# Altium footprint library K71.PcbLib: 32 footprints (part 2 of 2)
Each footprint in its own frame and in the unit in brackets; x right, y up, seen from the top. Pads: shape width x height; smd on the part's side, far side on the other; paste and mask are expansions set on the pad; w line width, h text height; cw(c..) or ccw(c..) is an arc to the next point about the centre after c.
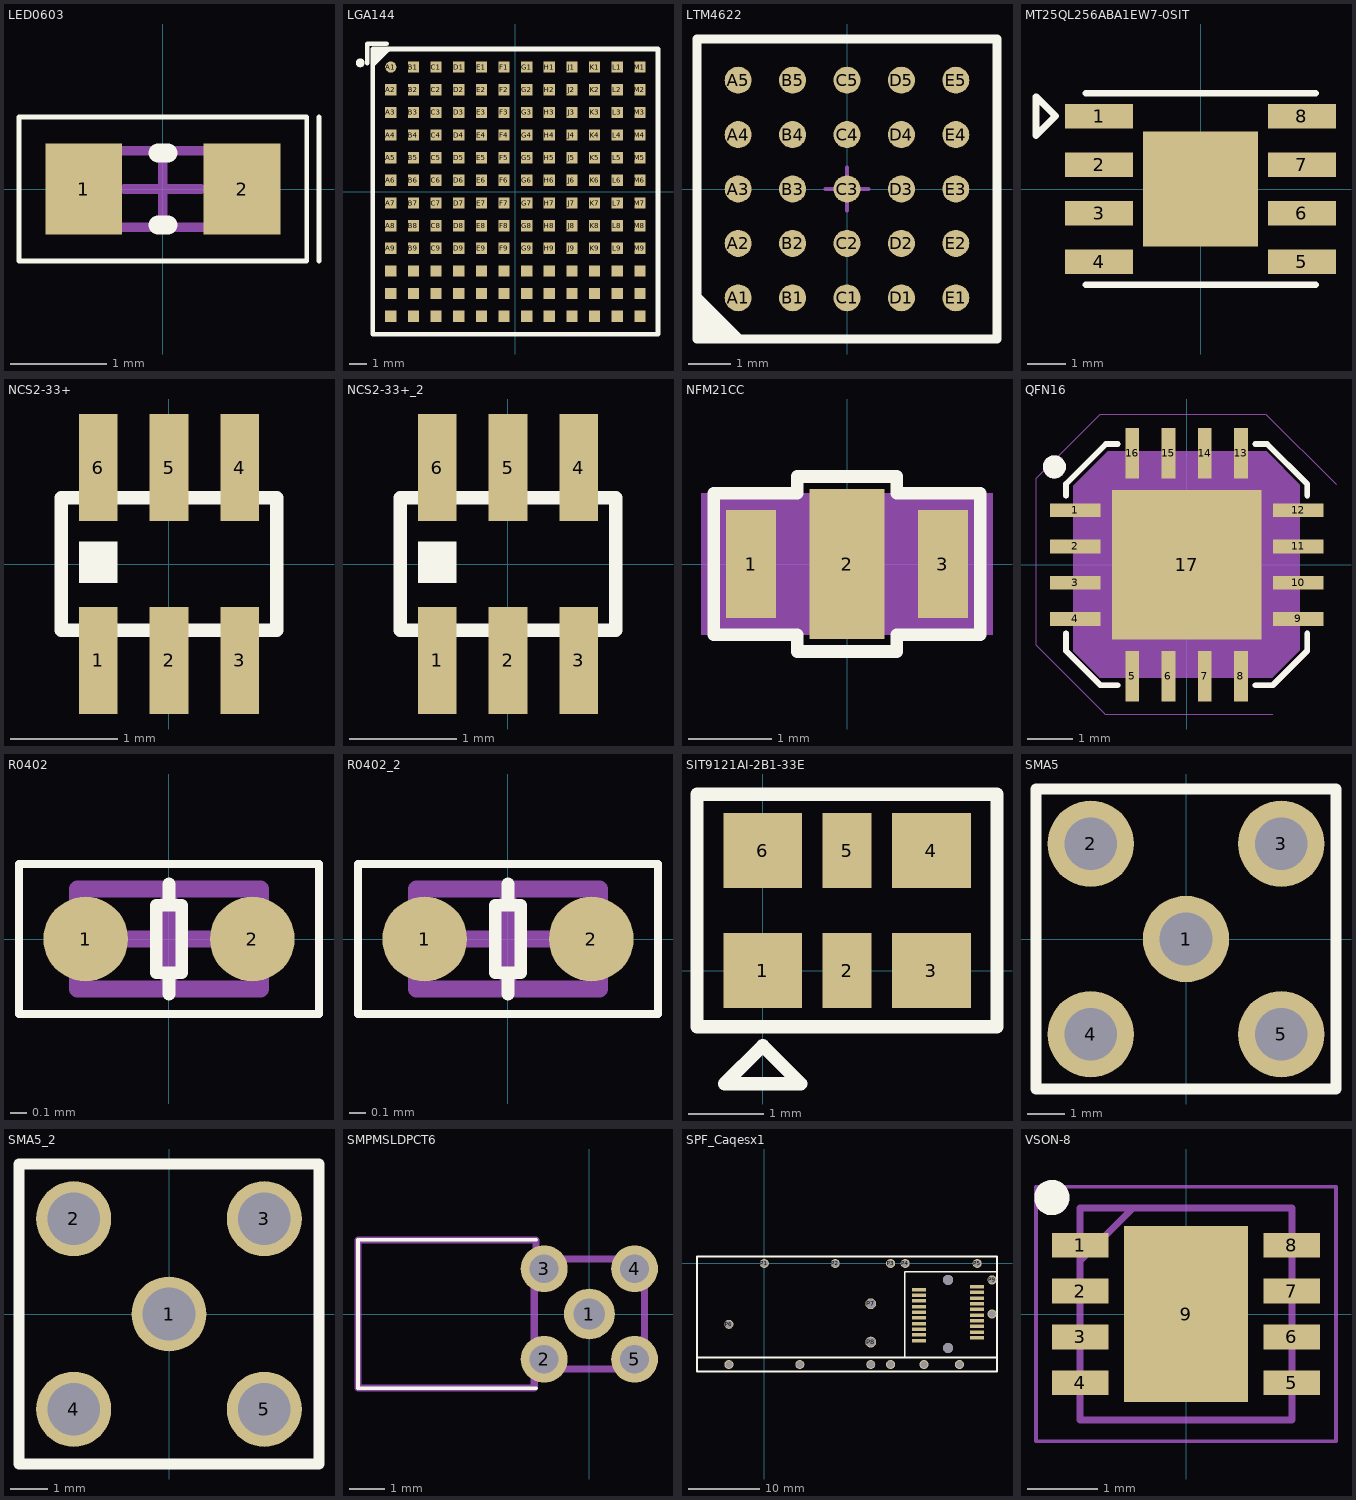
[diagram p1: the footprints below, top view; thin cyan lines are the x and y axes]

## LED0603 [mm]
height 1.2
pads (2):
  rect 0.8x0.95 smd: 1(-0.825,0) 2(0.825,0)
Top Overlay:
  lines w0.05: 1.627,-0.75 1.627,0.75 ; -1.5,-0.75 1.5,-0.75 1.5,0.75 -1.5,0.75 -1.5,-0.75
  lines w0.2: -0.05,-0.375 0.05,-0.375 ; -0.05,0.375 0.05,0.375
Mechanical 13:
  lines w0.1: -0.8,-0.4 0.8,-0.4 0.8,0.4 -0.8,0.4 -0.8,-0.4
Mechanical 15:
  lines w0.1: -0.4,0 0.4,0 ; 0,-0.4 0,0.4
3D body "LED 0603-R.STEP": height 0.47, standoff 0, extent -0.8,-0.401 0.8,0.401

## LGA144 [mm] "LTM4630"
pads (144):
  round 0.63 smd: A1(-6.985,6.985)
  rect 0.63x0.63 smd: A2(-6.985,5.715) A3(-6.985,4.445) A4(-6.985,3.175) A5(-6.985,1.905) A6(-6.985,0.635) A7(-6.985,-0.635) A8(-6.985,-1.905) A9(-6.985,-3.175) A10(-6.985,-4.445) A11(-6.985,-5.715) A12(-6.985,-6.985) B1(-5.715,6.985) B2(-5.715,5.715) B3(-5.715,4.445) B4(-5.715,3.175) B5(-5.715,1.905) B6(-5.715,0.635) B7(-5.715,-0.635) B8(-5.715,-1.905) B9(-5.715,-3.175) B10(-5.715,-4.445) B11(-5.715,-5.715) B12(-5.715,-6.985) C1(-4.445,6.985) C2(-4.445,5.715) C3(-4.445,4.445) C4(-4.445,3.175) C5(-4.445,1.905) C6(-4.445,0.635) C7(-4.445,-0.635) C8(-4.445,-1.905) C9(-4.445,-3.175) C10(-4.445,-4.445) C11(-4.445,-5.715) C12(-4.445,-6.985) D1(-3.175,6.985) D2(-3.175,5.715) D3(-3.175,4.445) D4(-3.175,3.175) D5(-3.175,1.905) D6(-3.175,0.635) D7(-3.175,-0.635) D8(-3.175,-1.905) D9(-3.175,-3.175) D10(-3.175,-4.445) D11(-3.175,-5.715) D12(-3.175,-6.985) E1(-1.905,6.985) E2(-1.905,5.715) E3(-1.905,4.445) E4(-1.905,3.175) E5(-1.905,1.905) E6(-1.905,0.635) E7(-1.905,-0.635) E8(-1.905,-1.905) E9(-1.905,-3.175) E10(-1.905,-4.445) E11(-1.905,-5.715) E12(-1.905,-6.985) F1(-0.635,6.985) F2(-0.635,5.715) F3(-0.635,4.445) F4(-0.635,3.175) F5(-0.635,1.905) F6(-0.635,0.635) F7(-0.635,-0.635) F8(-0.635,-1.905) F9(-0.635,-3.175) F10(-0.635,-4.445) F11(-0.635,-5.715) F12(-0.635,-6.985) G1(0.635,6.985) G2(0.635,5.715) G3(0.635,4.445) G4(0.635,3.175) G5(0.635,1.905) G6(0.635,0.635) G7(0.635,-0.635) G8(0.635,-1.905) G9(0.635,-3.175) G10(0.635,-4.445) G11(0.635,-5.715) G12(0.635,-6.985) H1(1.905,6.985) H2(1.905,5.715) H3(1.905,4.445) H4(1.905,3.175) H5(1.905,1.905) H6(1.905,0.635) H7(1.905,-0.635) H8(1.905,-1.905) H9(1.905,-3.175) H10(1.905,-4.445) H11(1.905,-5.715) H12(1.905,-6.985) J1(3.175,6.985) J2(3.175,5.715) J3(3.175,4.445) J4(3.175,3.175) J5(3.175,1.905) J6(3.175,0.635) J7(3.175,-0.635) J8(3.175,-1.905) J9(3.175,-3.175) J10(3.175,-4.445) J11(3.175,-5.715) J12(3.175,-6.985) K1(4.445,6.985) K2(4.445,5.715) K3(4.445,4.445) K4(4.445,3.175) K5(4.445,1.905) K6(4.445,0.635) K7(4.445,-0.635) K8(4.445,-1.905) K9(4.445,-3.175) K10(4.445,-4.445) K11(4.445,-5.715) K12(4.445,-6.985) L1(5.715,6.985) L2(5.715,5.715) L3(5.715,4.445) L4(5.715,3.175) L5(5.715,1.905) L6(5.715,0.635) L7(5.715,-0.635) L8(5.715,-1.905) L9(5.715,-3.175) L10(5.715,-4.445) L11(5.715,-5.715) L12(5.715,-6.985) M1(6.985,6.985) M2(6.985,5.715) M3(6.985,4.445) M4(6.985,3.175) M5(6.985,1.905) M6(6.985,0.635) M7(6.985,-0.635) M8(6.985,-1.905) M9(6.985,-3.175) M10(6.985,-4.445) M11(6.985,-5.715) M12(6.985,-6.985)
Top Overlay:
  lines w0.249: -8.7,7.1 cw(c-8.699,7.225) -8.697,7.1
  lines w0.254: -8.3,7.2 -8.3,8.3 -7.2,8.3 ; -8,7.1 -7.165,7.935 -7.165,8 ; -8,7.401 -7.401,8 -7.33,8 ; -8,7.6 -7.699,7.901 -7.699,8 ; -8,-8 8,-8 8,8 -8,8 -8,-8

## LTM4622 [mm]
height 1.55
pads (25):
  round 0.63 smd: A1(-2.54,-2.54) A2(-2.54,-1.27) A3(-2.54,0) A4(-2.54,1.27) A5(-2.54,2.54) B1(-1.27,-2.54) B2(-1.27,-1.27) B3(-1.27,0) B4(-1.27,1.27) B5(-1.27,2.54) C1(0,-2.54) C2(0,-1.27) C3(0,0) C4(0,1.27) C5(0,2.54) D1(1.27,-2.54) D2(1.27,-1.27) D3(1.27,0) D4(1.27,1.27) D5(1.27,2.54) E1(2.54,-2.54) E2(2.54,-1.27) E3(2.54,0) E4(2.54,1.27) E5(2.54,2.54)
Top Overlay:
  region: -3.5,-2.5 -2.5,-3.5 -3.5,-3.5
  lines w0.2: -3.5,-2.5 -2.5,-3.5 ; -3.5,-3.5 3.5,-3.5 3.5,3.5 -3.5,3.5 -3.5,-3.5
Mechanical 13:
  lines w0.1: -3.5,-3.5 3.5,-3.5 3.5,3.5 -3.5,3.5 -3.5,-3.5
Mechanical 15:
  lines w0.1: -0.5,0 0.5,0 ; 0,-0.5 0,0.5
3D body: height 1.55, standoff 0, extent -3.5,-3.5 3.5,3.5

## MT25QL256ABA1EW7-0SIT [mm]
pads (9):
  rect 1.778x0.635 smd: 1(-2.65,1.905) 2(-2.65,0.635) 3(-2.65,-0.635) 4(-2.65,-1.905) 5(2.65,-1.905) 6(2.65,-0.635) 7(2.65,0.635) 8(2.65,1.905)
  rect 3x3 smd: ""(0,0)
Top Overlay:
  lines w0.178: -3,-2.5 3,-2.5 ; -3,2.5 3,2.5 ; -4.301,1.397 -3.793,1.905 -4.301,2.413 -4.301,1.397

## NCS2-33+ [mm]
pads (6):
  rect 0.36x1 smd: 1(-0.66,-0.9) 2(0,-0.9) 3(0.66,-0.9) 4(0.66,0.9) 5(0,0.9) 6(-0.66,0.9)
Top Overlay:
  rectangle: -0.84,-0.177 -0.48,0.21
  lines w0.127: -1.005,-0.62 -1.005,0.62 1.005,0.62 1.005,-0.62 -1.005,-0.62

## NCS2-33+_2 [mm]
pads (6):
  rect 0.36x1 smd: 1(-0.66,-0.9) 2(0,-0.9) 3(0.66,-0.9) 4(0.66,0.9) 5(0,0.9) 6(-0.66,0.9)
Top Overlay:
  rectangle: -0.84,-0.177 -0.48,0.21
  lines w0.127: -1.005,-0.62 -1.005,0.62 1.005,0.62 1.005,-0.62 -1.005,-0.62

## NFM21CC [mm] "NFM21CC"
pads (3):
  rect 0.6x1.3 smd: 1(-1.15,0) 3(1.15,0)
  rect 0.9x1.8 smd: 2(0,0)
Top Overlay:
  lines w0.15: -1.6,-0.85 -1.6,0.85 -0.6,0.85 -0.6,1.05 0.6,1.05 0.6,0.85 1.6,0.85 1.6,-0.85 0.6,-0.85 0.6,-1.05 -0.6,-1.05 -0.6,-0.85 -1.6,-0.85
Mechanical 14:
  text "3" at 1.15,-0.203 h0.25
  text "1" at -1.15,-0.203 h0.25
  text "2" at 0,-0.203 h0.25
Mechanical 16:
  region: -1.75,0.85 -1.75,-0.85 1.75,-0.85 1.75,0.85
3D body: height 3.81, standoff 0, extent -1.75,-0.85 1.75,0.85

## QFN16 [mil] "QFN16"
pads (17):
  rect 44x12 smd: 1(-97,47.24) 2(-97,15.75) 3(-97,-15.75) 4(-97,-47.24) 9(97,-47.24) 10(97,-15.75) 11(97,15.75) 12(97,47.24)
  rect 12x44 smd: 5(-47.24,-97) 6(-15.75,-97) 7(15.75,-97) 8(47.24,-97) 13(47.24,97) 14(15.75,97) 15(-15.75,97) 16(-47.24,97)
  rect 130x130 smd: 17(0,0)
Top Overlay:
  circle w10: c-115,85 r5
  lines w5: -105,-60 -105,-75 -75,-105 -60,-105 ; -105,60 -105,70 -70,105 -60,105 ; 60,-105 75,-105 105,-75 105,-60 ; 60,105 70,105 105,70 105,60
Mechanical 5:
  circle w10: c-115,85 r5
  lines w5: -105,-60 -105,-75 -75,-105 -60,-105 ; -105,60 -105,70 -70,105 -60,105 ; 60,-105 75,-105 105,-75 105,-60 ; 60,105 70,105 105,70 105,60
Mechanical 14:
  text "7" at 47.75,-97 h80
  text "6" at 16.25,-97 h80
  text "5" at -15.24,-97 h80
  text "4" at -65,-47.24 h80
  text "3" at -65,-15.75 h80
  text "2" at -65,15.75 h80
  text "1" at -65,47.24 h80
Mechanical 16:
  region: 98.43,-74.58 75,-98 74.58,-98.43 -75.58,-98.43 -76,-98 -98.43,-75.58 -98.43,68.58 -98,69 -68.58,98.43 69.58,98.43 70,98 98.43,69.58
  lines w1: 75,-130 -71,-130 -71.49,-129.48 -131,-70 -131,75 -75,131 -65,131 69,131 130,70
Mechanical 17:
  text ".Designator" at 6,-1.67 h5
3D body: height 150, standoff 0, extent -98.43,-98.43 98.43,98.43

## R0402 [mil]
height 11.81
pads (2):
  round 20 smd: 1(-19.68,0) 2(19.68,0)
Top Overlay:
  lines w1.97: -35.43,-17.72 -35.43,17.72 35.43,17.72 35.43,-17.72 -35.43,-17.72
  lines w3: 0,-13 0,-8 ; 0,8 0,13 ; -3,-8 3,-8 3,0 3,8 -3,8 -3,0 -3,-8
Mechanical 13:
  lines w3.94: -21.65,-11.81 21.65,-11.81 21.65,11.81 -21.65,11.81 -21.65,-11.81
Mechanical 15:
  lines w1.97: -35.43,-17.72 -35.43,17.72 35.43,17.72 35.43,-17.72 -35.43,-17.72
  lines w3.94: -9.84,0 9.84,0 ; 0,-9.84 0,9.84
3D body "R0402.STEP": height 13.78, standoff 0, extent -19.68,-9.84 19.68,9.84

## R0402_2 [mil]
pads (2):
  round 20 smd: 1(-19.68,0) 2(19.68,0)
Top Overlay:
  lines w1.97: -35.43,-17.72 -35.43,17.72 35.43,17.72 35.43,-17.72 -35.43,-17.72
  lines w3: 0,-13 0,-8 ; 0,8 0,13 ; -3,-8 3,-8 3,0 3,8 -3,8 -3,0 -3,-8
Mechanical 13:
  lines w3.94: -21.65,-11.81 21.65,-11.81 21.65,11.81 -21.65,11.81 -21.65,-11.81
Mechanical 15:
  lines w1.97: -35.43,-17.72 -35.43,17.72 35.43,17.72 35.43,-17.72 -35.43,-17.72
  lines w3.94: -9.84,0 9.84,0 ; 0,-9.84 0,9.84
3D body "R0402.STEP": height 13.78, standoff 0, extent -19.68,-9.84 19.69,9.85

## SIT9121AI-2B1-33E [mm]
pads (6):
  rect 1.05x1 smd: 1(0,0) 3(2.25,0) 4(2.25,1.6) 6(0,1.6)
  rect 0.65x1 smd: 2(1.125,0) 5(1.125,1.6)
Top Overlay:
  lines w0.178: -0.875,-0.75 -0.875,2.35 3.125,2.35 3.125,-0.75 -0.875,-0.75 ; -0.508,-1.508 0,-1 0.508,-1.508 -0.508,-1.508

## SMA5 [mm]
pads (5):
  round 2.3 hole 1.4: 1(0,0) 2(-2.54,2.54) 3(2.54,2.54) 4(-2.54,-2.54) 5(2.54,-2.54)
Top Overlay:
  lines w0.305: -4,-4 -4,4 4,4 4,-4 -4,-4

## SMA5_2 [mm]
pads (5):
  round 2 hole 1.4: 1(0,0) 2(-2.54,2.54) 3(2.54,2.54) 4(-2.54,-2.54) 5(2.54,-2.54)
Top Overlay:
  lines w0.305: -4,-4 -4,4 4,4 4,-4 -4,-4

## SMPMSLDPCT6 [mm]
pads (5):
  round 1.43 hole 0.88: 1(0,0)
  round 1.316 hole 0.81: 2(-1.27,-1.27) 3(-1.27,1.27) 4(1.27,1.27) 5(1.27,-1.27)
Top Overlay:
  lines w0.1: -1.5,-2.08 -6.5,-2.08 -6.5,2.08 -1.5,2.08
Mechanical 13:
  lines w0.2: -1.55,-1.27 -1.55,-2.08 -6.5,-2.08 -6.5,2.08 -1.5,2.08 -1.5,1.5 ; -1.55,-1.55 -1.55,1.55 1.55,1.55 1.55,-1.55 -1.55,-1.55

## SPF_Caqesx1 [mm]
height 1.91
pads (38):
  rect 2x0.5 smd: A1(21.809,-3.68) A2(21.809,-4.48) A3(21.809,-5.28) A4(21.809,-6.08) A5(21.809,-6.88) A6(21.809,-7.68) A7(21.809,-8.48) A8(21.809,-9.28) A9(21.809,-10.08) A10(21.809,-10.88) A11(30.009,-10.48) A12(30.009,-9.68) A13(30.009,-8.88) A14(30.009,-8.08) A15(30.009,-7.28) A16(30.009,-6.48) A17(30.009,-5.68) A18(30.009,-4.88) A19(30.009,-4.08) A20(30.009,-3.28)
  round 1.45 hole 1.45: A21(25.909,-2.316) A22(25.909,-11.916)
  round 1.27 hole 1: P1(0,0) P2(10,0) P3(17.809,0) P4(19.859,0) P5(30.009,0) P9(32.109,-2.316) P10(32.109,-7.116) P13(15.009,-14.25) P14(17.809,-14.25) P15(22.509,-14.25) P16(27.509,-14.25)
  round 1.27 hole 1.05: P6(-4.991,-8.58)
  round 1.524 hole 1.3: P7(15.009,-5.68) P8(15.009,-11.08)
  round 1.27 hole 1.016: P11(-4.991,-14.25) P12(5.009,-14.25)
Top Overlay:
  lines w0.203: 32.809,-13.25 19.774,-13.25 19.774,-1.143 32.809,-1.143
  lines w0.254: -9.488,-13.251 32.811,-13.251 ; -9.488,0.999 -9.488,-15.248 32.811,-15.248 ; -9.487,1 32.809,1 32.809,-15.246

## VSON-8 [mm]
pads (9):
  rect 0.8x0.35 smd: 1(-1.5,0.975) 2(-1.5,0.325) 3(-1.5,-0.325) 4(-1.5,-0.975) 5(1.5,-0.975) 6(1.5,-0.325) 7(1.5,0.325) 8(1.5,0.975)
  rect 1.75x2.5 smd: 9(0,0)
Top Overlay:
  circle w0.25: c-1.9,1.65 r0.125
Mechanical 13:
  lines w0.1: -1.5,0.75 -0.75,1.5 ; -1.5,-1.5 -1.5,1.5 1.5,1.5 1.5,-1.5 -1.5,-1.5
Mechanical 15:
  lines w0.05: -2.125,-1.8 -2.125,1.8 2.125,1.8 2.125,-1.8 -2.125,-1.8
3D body "TPS74613PQWDRBRQ1.stp": height 1, standoff 0, extent -1.5,-1.5 1.5,1.5